# Altium footprint library EPL2010.PcbLib: 1 footprints
Each footprint in its own frame and in the unit in brackets; x right, y up, seen from the top. Pads: shape width x height; smd on the part's side, far side on the other; paste and mask are expansions set on the pad; w line width, h text height; cw(c..) or ccw(c..) is an arc to the next point about the centre after c.
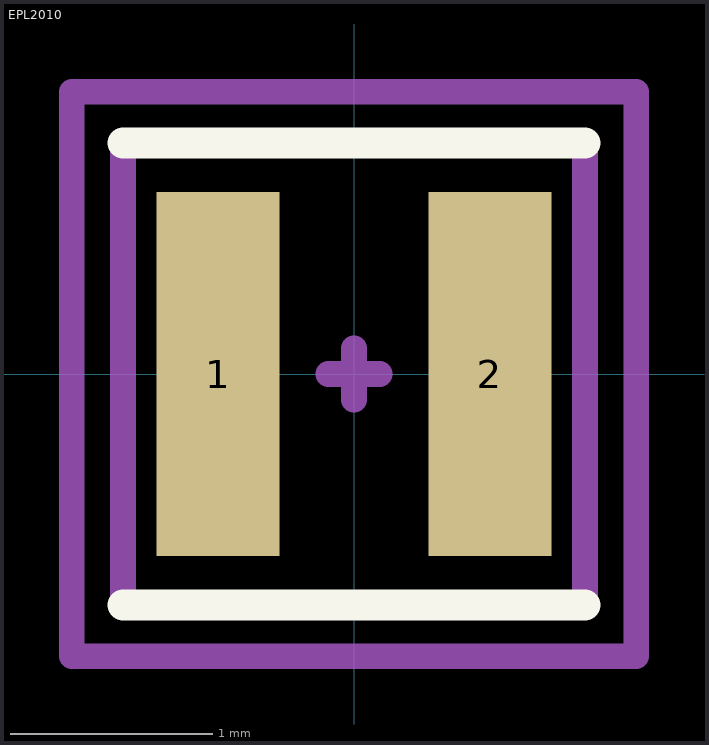
[diagram p0: the footprint, top view; thin cyan lines are the x and y axes]

## EPL2010 [mil]
pads (2):
  rect 24x71 smd: 1(-26.5,0) 2(26.5,0)
Top Overlay:
  lines w6: -45,-45 45,-45 ; -45,45 45,45
Mechanical 13:
  lines w5: -45,-45 -45,45 45,45 45,-45 -45,-45
Mechanical 15:
  lines w5: -5,0 5,0 ; 0,-5 0,5 ; -55,-55 -55,55 55,55 55,-55 -55,-55
Mechanical 17:
  text "'.Designator'" at -80,-10 h15
Mechanical 19:
  text "'.Comment'" at -60,-5 h15
3D body "Coilcraft-EPL2010.step": height 41.34, standoff 0, extent -42.94,-43.73 43.53,42.74